# Altium schematic symbol library Analog.SchLib: 6 symbols
Pins are listed as number, name and electrical type; pins without a type are passive.

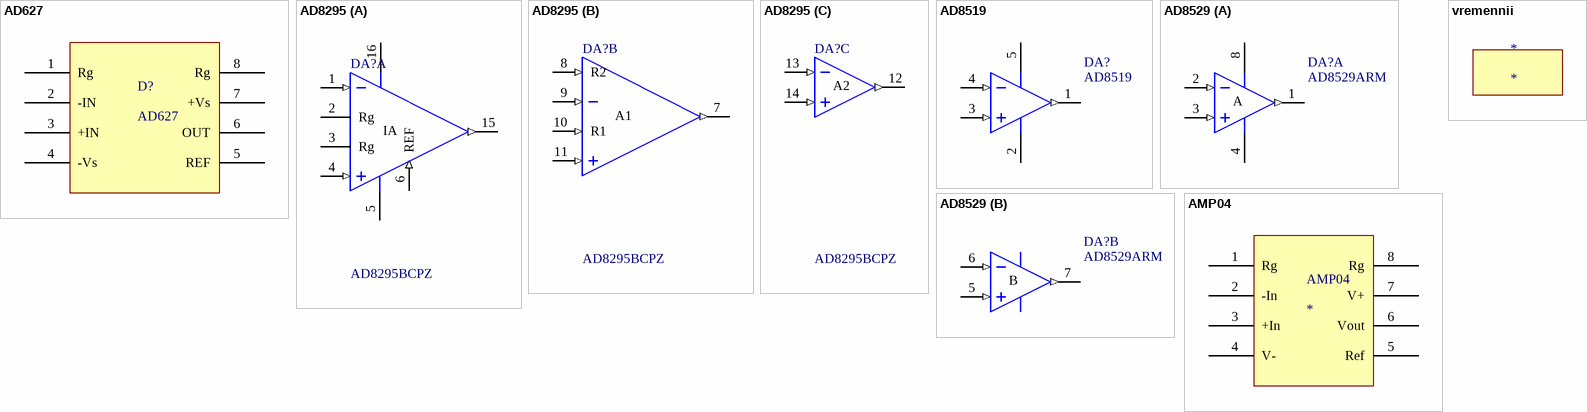
[diagram p0: symbols AD627 to vremennii]

## AD627
designator D?
AD627 s/d supply, Rail-to-Rail
footprint SOIC127P600X165-8N (SOIC, 8-Leads, Body 5,0x4,0mm (max), Pitch 1,27mm, IPC Medium Density)
pins: 1 Rg, 2 -IN, 3 +IN, 4 -Vs, 5 REF, 6 OUT, 7 +Vs, 8 Rg

## AD8295
designator DA?, comment AD8295BCPZ
Precision Instrumentation Amplifier  with Signal Processing Amplifiers; Published: 8-Jun-2000; LatestRevisionDate: 04-Mar-2005; LatestRevisionNote: Stylized 3D Model Added.; DatasheetVersion: REV.B 1998; PackageVersion: revB, 1996; PackageReference: D-16_B; Publisher: Altium Limited; ComponentLink1Description: Manufacturer Link; ComponentLink1URL: http://www.analog.com/ad8295; ComponentLink2Description: Datasheet; ComponentLink2URL: http://www.analog.com/ad8295
footprint LFCSP_VQ-16N (16-Lead Lead Frame Chip Scale Package [LFCSP_VQ] 4 mm x 4 mm Body, Very Thin Quad, Pitch 0,65mm, IPC Medium Density)
part A pins: 1 IN- (in), 2 Rg, 3 Rg (power), 4 IN+ (in), 5 V- (power), 6 REF (in), 15 OUT (out), 16 V+ (power)
part B pins: 7 OUT (out), 8 R2 (in), 9 IN- (in), 10 R1 (in), 11 IN+ (in)
part C pins: 12 OUT (out), 13 IN- (in), 14 IN+ (in)
part A text: IA
part B text: A1
part C text: A2

## AD8519
designator DA?
8 MHz Rail-to-Rail  Operational Amplifier; Published: 8-Jun-2000; LatestRevisionDate: 17-Jul-2002; LatestRevisionNote: Re-released for DXP Platform.; DatasheetVersion: Rev. F 2004; PackageVersion: 2005; PackageReference: KS-5N; Publisher: Altium Limited; Code_JEDEC: MO-178AA; ComponentLink1Description: Manufacturer Link; ComponentLink1URL: http://www.analog.com/ad8519; ComponentLink2Description: Datasheet; ComponentLink2URL: http://www.analog.com/ad8519
footprint RJ-5 (SOT-23/SC-74A; 5 Leads; Body 3.1 x 3 mm, inc. leads (LxW max))
footprint KS-5N (5-Lead Thin Shrink Small Outline Transistor Package [SC70] (KS-5), Pitch 0,65mm, IPC Medium Density)
pins: 1 OUT (out), 2 V- (power), 3 IN+ (in), 4 IN- (in), 5 V+ (power)

## AD8529
designator DA?, comment AD8529ARM
8 MHz Rail-to-Rail  Operational Amplifier; Published: 8-Jun-2000; LatestRevisionDate: 04-Mar-2005; DatasheetVersion: Rev. F 2004; PackageVersion: 2004; PackageReference: RM-8; Publisher: Altium Limited; ComponentLink1Description: Manufacturer Link; ComponentLink1URL: http://www.analog.com/ad8529; ComponentLink2Description: Datasheet; ComponentLink2URL: http://www.analog.com/ad8529
footprint RM-8N (8-Lead Mini Small Outline Package [MSOP] (RM-8), Pitch 0,65mm, IPC Medium Density)
part A pins: 1 OUT (out), 2 IN- (in), 3 IN+ (in), 4 V- (power), 8 V+ (power)
part B pins: 5 IN+ (in), 6 IN- (in), 7 OUT (out)
part A text: A
part B text: B

## AMP04
designator AMP04
AMP-04 single supply, Instr amp
footprint SOIC127P600X165-8N (SOIC, 8-Leads, Body 5,0x4,0mm (max), Pitch 1,27mm, IPC Medium Density)
pins: 1 Rg, 2 -In, 3 +In, 4 V-, 5 Ref, 6 Vout, 7 V+, 8 Rg

## vremennii
designator *